# EAGLE library part DRV2603RUNR (library SamacSys_Parts)
Haptic Driver with Auto Resonance Tracking for LRA and Optimized Drive for ERM Source: Datasheet <http://www.ti.com/lit/gpn/drv2603>
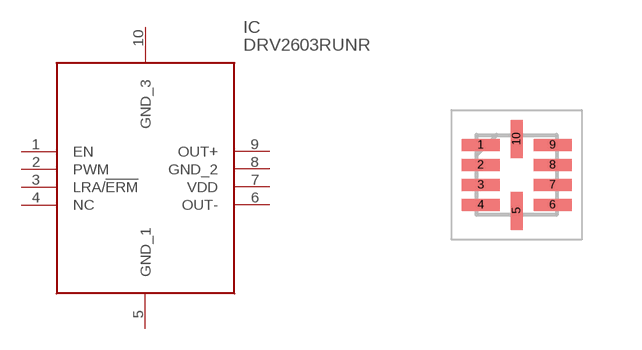
[diagram p7: symbol with the pads of QFN50P200X200X80-10N; footprint QFN50P200X200X80-10N]

Designator prefix IC

## DRV2603RUNR (Description: Haptic Driver with Auto Resonance Tracking for LRA and Optimized Drive for ERM; Height: 0.8mm; Manufacturer_Name: Texas Instruments; Manufacturer_Part_Number: DRV2603RUNR; Mouser_Part_Number: 595-DRV2603RUNR; Mouser_Price-Stock: https://www.mouser.co.uk/ProductDetail/Texas-Instruments/DRV2603RUNR?qs=l6ZoeTYLMwNhoGl8Q31%2FaA%3D%3D)  [QFN50P200X200X80-10N]
1  EN  in
2  PWM  in
3  LRA/!ERM  in
4  NC  nc
5  GND_1  pwr
6  OUT-  out
7  VDD  pwr
8  GND_2  pwr
9  OUT+  out
10  GND_3  pwr

## Footprint QFN50P200X200X80-10N (pad centres in mm)
RUN(S-PWQFN-N10)
smd 0.95 x 0.3: 1 -0.9,0.75; 2 -0.9,0.25; 3 -0.9,-0.25; 4 -0.9,-0.75; 6 0.9,-0.75; 7 0.9,-0.25; 8 0.9,0.25; 9 0.9,0.75
smd 0.3 x 0.95: 5 0,-0.9; 10 0,0.9